# EAGLE library part TPS2511 (library borkedlabs-powerics)
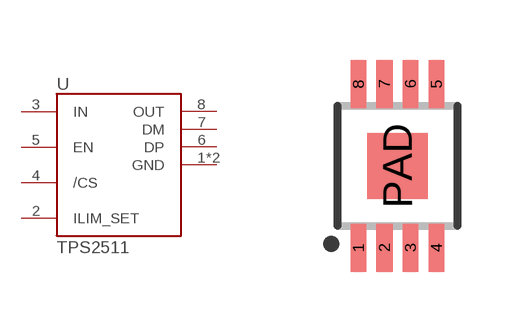
[diagram p13: symbol with the pads of MSOP8-PAD; footprint MSOP8-PAD]

Designator prefix U

## TPS2511DGN (PACKAGE: MSOP-8-PAD)  [MSOP8-PAD]
1  GND
2  ILIM_SET
3  IN
4  /CS
5  EN
6  DP
7  DM
8  OUT
PAD  GND

## Footprint MSOP8-PAD (pad centres in mm)
smd 0.4 x 1.2: 1 -0.975,-2.05; 2 -0.325,-2.05; 3 0.325,-2.05; 4 0.975,-2.05; 5 0.975,2.05; 6 0.325,2.05; 7 -0.325,2.05; 8 -0.975,2.05
smd 1.5 x 1.65: PAD 0,0